# EAGLE library part RPI_PICO_2_W_HEADER (library raspberrypi_pico2w_header)
Raspberry Pi Pico 2 W - 2x20 header (pins 1..40) with clean pin names.
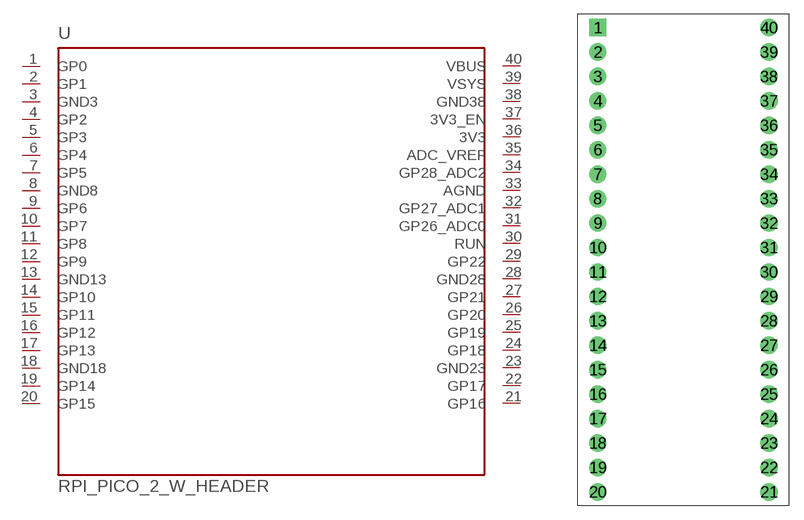
[diagram p0: symbol with the pads of PICO_2W_HDR_2X20_2P54_0P7IN; footprint PICO_2W_HDR_2X20_2P54_0P7IN]

Designator prefix U

## RPI_PICO_2_W_HEADER  [PICO_2W_HDR_2X20_2P54_0P7IN]
1  GP0
2  GP1
3  GND3  pwr
4  GP2
5  GP3
6  GP4
7  GP5
8  GND8  pwr
9  GP6
10  GP7
11  GP8
12  GP9
13  GND13  pwr
14  GP10
15  GP11
16  GP12
17  GP13
18  GND18  pwr
19  GP14
20  GP15
21  GP16
22  GP17
23  GND23  pwr
24  GP18
25  GP19
26  GP20
27  GP21
28  GND28  pwr
29  GP22
30  RUN  in
31  GP26_ADC0
32  GP27_ADC1
33  AGND  pwr
34  GP28_ADC2
35  ADC_VREF  pwr
36  3V3  pwr
37  3V3_EN  in
38  GND38  pwr
39  VSYS  pwr
40  VBUS  pwr

## Footprint PICO_2W_HDR_2X20_2P54_0P7IN (pad centres in mm)
2x20 header footprint for Pico form-factor. Pitch 2.54mm; row spacing 17.78mm (0.7"). Pad drill 1.0mm (typical for Pico headers/castellations). Origin at centre between rows and mid-length.
drill 1 pad 1.8 square: 1 -8.89,24.13
drill 1 pad 1.8: 2 -8.89,21.59; 3 -8.89,19.05; 4 -8.89,16.51; 5 -8.89,13.97; 6 -8.89,11.43; 7 -8.89,8.89; 8 -8.89,6.35; 9 -8.89,3.81; 10 -8.89,1.27; 11 -8.89,-1.27; 12 -8.89,-3.81; 13 -8.89,-6.35; 14 -8.89,-8.89; 15 -8.89,-11.43; 16 -8.89,-13.97; 17 -8.89,-16.51; 18 -8.89,-19.05; 19 -8.89,-21.59; 20 -8.89,-24.13; 21 8.89,-24.13; 22 8.89,-21.59; 23 8.89,-19.05; 24 8.89,-16.51; 25 8.89,-13.97; 26 8.89,-11.43; 27 8.89,-8.89; 28 8.89,-6.35; 29 8.89,-3.81; 30 8.89,-1.27; 31 8.89,1.27; 32 8.89,3.81; 33 8.89,6.35; 34 8.89,8.89; 35 8.89,11.43; 36 8.89,13.97; 37 8.89,16.51; 38 8.89,19.05; 39 8.89,21.59; 40 8.89,24.13